# Altium schematic symbol library 海关全向控制器主控板V2.SCHLIB: 30 symbols
Pins are listed as number, name and electrical type; pins without a type are passive.

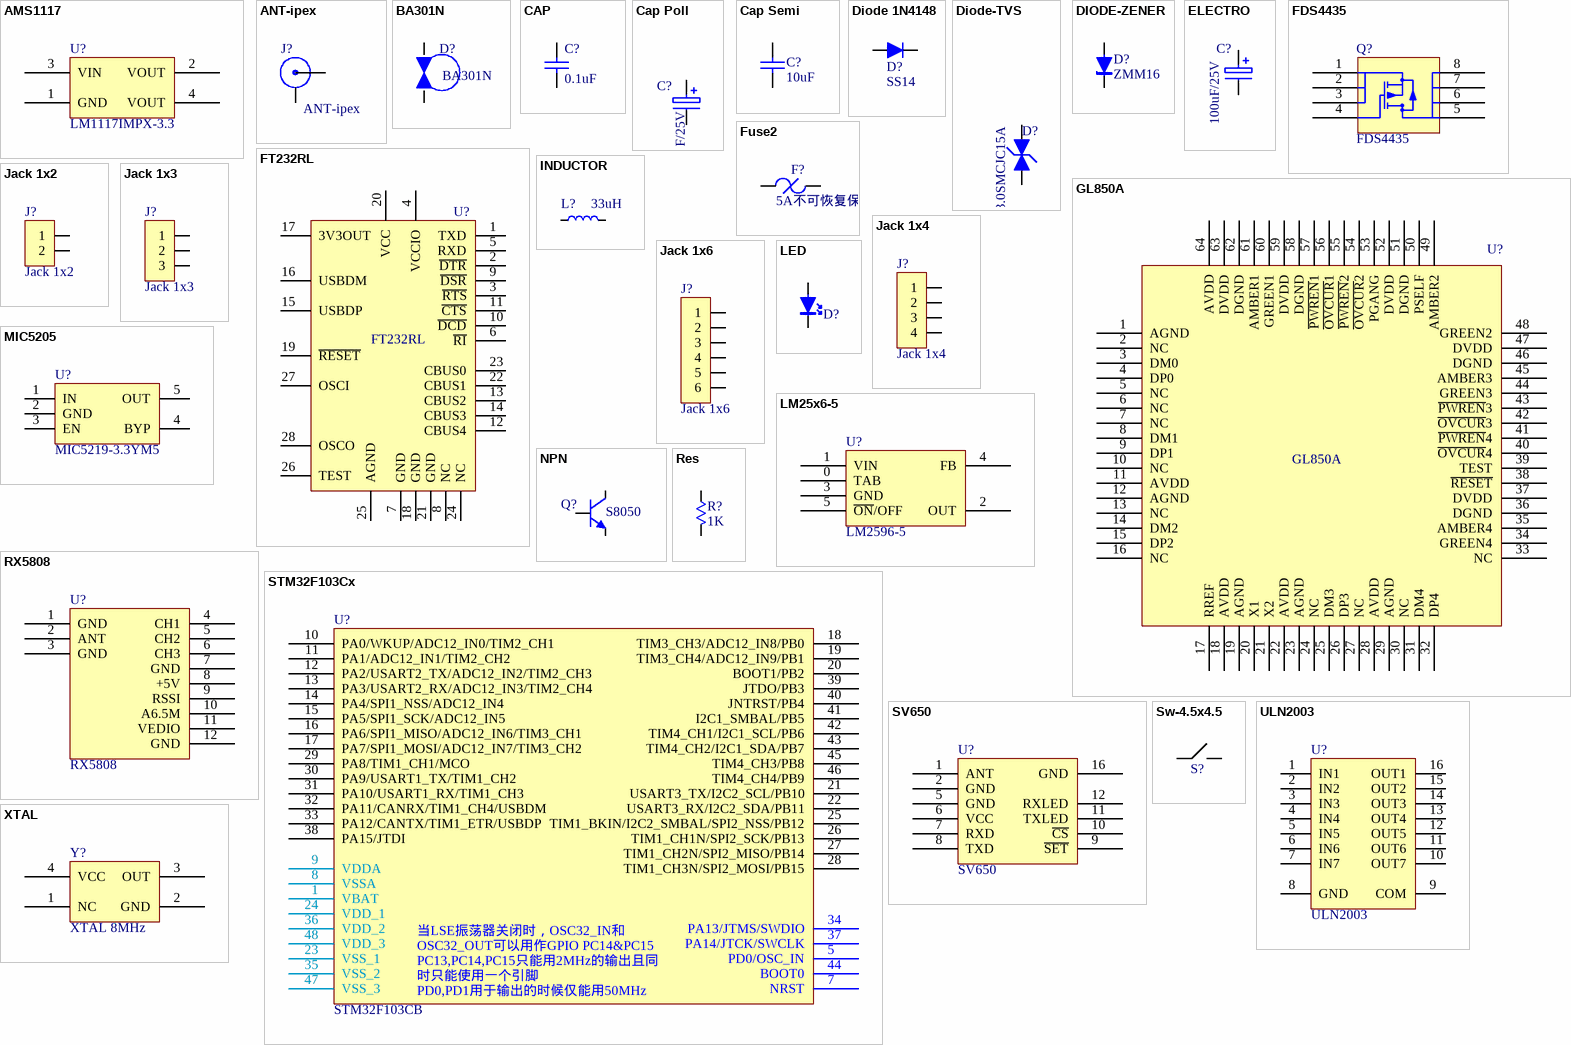
[diagram p0: symbols AMS1117 to XTAL]

## AMS1117
designator U?, comment LM1117IMPX-3.3
800mA Low-Dropout Linear Regulator; Published: 24-Mar-1999; LatestRevisionDate: 17-Jul-2002; LatestRevisionNote: Re-released for DXP Platform.; PackageReference: D2PAK; Publisher: Altium Limited; Code_JEDEC: SMD-220
footprint SOT-223
pins: 1 GND, 2 VOUT, 3 VIN, 4 VOUT

## ANT-ipex
designator J?
footprint IPEX
pins: 1 ANT, 2 GND

## BA301N
designator D?
footprint BA301N
pins: 1, 2

## CAP
designator C?, comment 0.1uF
CAP; Published: 8-Jun-2000; LatestRevisionDate: 17-Jul-2002; LatestRevisionNote: Re-released for DXP Platform.; PackageReference: RAD-0.3; Publisher: Altium Limited; Value: 0.1uF
footprint C0805
simulation model CAP (Capacitor)
signal-integrity model Cap
footprint C0603-W
footprint C0805
footprint C0805-W
footprint C1206
footprint C1210
footprint C1812
footprint C1825
footprint C0603-S
footprint C0603
pins: 1, 2

## Cap Poll
designator C?, comment 100uF/25V
footprint C10*10.8 (470uF/35V)
footprint C7343
pins: 1, 2

## Cap Semi
designator C?, comment 10uF
footprint C0805
footprint C0603
pins: 1, 2

## Diode 1N4148
designator D?, comment SS14
High Conductance Fast Diode; Published: 8-Jun-2000; LatestRevisionDate: 17-Jul-2002; LatestRevisionNote: Re-released for DXP Platform.; DatasheetVersion: 1997; PackageReference: DO-35; Publisher: Altium Limited; PackageDescription: Diode, Axial; Body 3.8 x 1.9 mm (LxDia. max), Lead Dia. 0.53 mm (max); Code_JEDEC: DO-204-AH; ComponentLink1Description: Manufacturer Link; ComponentLink1URL: http://www.fairchildsemi.com/; ComponentLink2Description: Datasheet; ComponentLink2URL: http://www.fairchildsemi.com/ds/1N%2F1N4148.pdf
footprint SMA
simulation model 1N4148 (DIODE)
signal-integrity model 1N4148
pins: 1 A, 2 K, 2 K

## Diode-TVS
designator D?, comment 3.0SMCJC15A
footprint smc
pins: 1 A, 2 K

## DIODE-ZENER
designator D?, comment ZMM16
Small Signal Zener Diodes
footprint SOD-80-S
footprint SOD-80-S
pins: 1 A, 2 K

## ELECTRO
designator C?, comment 100uF/25V
Electrolytic Capacitor
footprint RB.1/.2
footprint RB.15/.3
footprint RB.1/.3
footprint RB.2/.6(160V/47U)
footprint CTANT - D
footprint CT7343-D\E
footprint C6.3*7.7 (100uF/35V)
footprint C7343
pins: 1, 2

## FDS4435
designator Q?
footprint SO8
pins: 1, 2, 3, 4, 5, 6, 7, 8

## FT232RL
designator U?
footprint SSOP-28
pins: 1 TXD, 2 ~{DTR}, 3 ~{RTS}, 4 VCCIO, 5 RXD, 6 ~{RI}, 7 GND, 8 NC, 9 ~{DSR}, 10 ~{DCD}, 11 ~{CTS}, 12 CBUS4, 13 CBUS2, 14 CBUS3, 15 USBDP, 16 USBDM, 17 3V3OUT, 18 GND, 19 ~{RESET}, 20 VCC, 21 GND, 22 CBUS1, 23 CBUS0, 24 NC, 25 AGND, 26 TEST, 27 OSCI, 28 OSCO

## Fuse2
designator F?, comment 5A不可恢复保险
footprint F1218
pins: 1, 2

## GL850A
designator U?
footprint LQF64
pins: 1 AGND, 2 NC, 3 DM0, 4 DP0, 5 NC, 6 NC, 7 NC, 8 DM1, 9 DP1, 10 NC, 11 AVDD, 12 AGND, 13 NC, 14 DM2, 15 DP2, 16 NC, 17 RREF, 18 AVDD, 19 AGND, 20 X1, 21 X2, 22 AVDD, 23 AGND, 24 NC, 25 DM3, 26 DP3, 27 NC, 28 AVDD, 29 AGND, 30 NC, 31 DM4, 32 DP4, 33 NC, 34 GREEN4, 35 AMBER4, 36 DGND, 37 DVDD, 38 ~{RESET}, 39 TEST, 40 ~{OVCUR}4, 41 ~{PWREN}4, 42 ~{OVCUR}3, 43 ~{PWREN}3, 44 GREEN3, 45 AMBER3, 46 DGND, 47 DVDD, 48 GREEN2, 49 AMBER2, 50 PSELF, 51 DGND, 52 DVDD, 53 PGANG, 54 ~{OVCUR}2, 55 ~{PWREN}2, 56 ~{OVCUR}1, 57 ~{PWREN}1, 58 DGND, 59 DVDD, 60 GREEN1, 61 AMBER1, 62 DGND, 63 DVDD, 64 AVDD

## INDUCTOR
designator L?, comment 33uH
INDUCTOR; Code_IEC: 1005; Published: 8-Jun-2000; LatestRevisionDate: 17-Jul-2002; LatestRevisionNote: Re-released for DXP Platform.; PackageReference: 0402-A; Publisher: Altium Limited; Code_JEITA: 0402
simulation model INDUCTOR (Inductor)
signal-integrity model Inductor
footprint L6.6*7.1mm (AMPI0630ED)
footprint L0805-C
footprint L0603-C
footprint L3030-P
footprint SLF7055 (TDK SMD power inductor)
footprint L5050-P
pins: 1, 2

## Jack 1x2
designator J?
插座
footprint KLD-0202 (DC Power Jack, 2.5mm, KLD Series, PCB Mount)
pins: 1, 2

## Jack 1x3
designator J?
插座
footprint 35363-0360
pins: 1, 2, 3

## Jack 1x4
designator J?
插座
footprint 35363-0460
pins: 1, 2, 3, 4

## Jack 1x6
designator J?
插座
footprint 35363-0660
pins: 1, 2, 3, 4, 5, 6

## LED
designator D?  (value not drawn)
footprint LED0603
footprint LED1206
footprint LED0603
footprint LED0603
pins: 1 A, 2 K

## LM25x6-5
designator U?, comment LM2596-5
LM2596-5;LM2576-5
footprint TO-263-5
pins: 0 TAB, 1 VIN, 2 OUT, 3 GND, 4 FB, 5 ~{ON}/OFF

## MIC5205
designator U?, comment MIC5219-3.3YM5
footprint SOT-23-5 (Footprint not found)
pins: 1 IN, 2 GND, 3 EN, 4 BYP, 5 OUT

## NPN
designator Q?, comment S8050
NPN General Purpose Amplifier; Published: 8-Jun-2000; LatestRevisionDate: 15-Jan-2003; LatestRevisionNote: PCB Footprint 'BCY-W3/D4.7' replaced; DatasheetDocument: 1997; PackageDocument: Sep-1998; PackageReference: TO-92A; Publisher: Altium Limited; Code_JEDEC: TO-92A; ComponentLink1Description: Manufacturer Link; ComponentLink1URL: http://www.fairchildsemi.com/; ComponentLink2Description: Datasheet; ComponentLink2URL: http://www.fairchildsemi.com/ds/2N%2F2N3904.pdf
footprint SOT-23
simulation model 2N3904 (NPN)
signal-integrity model 2N3904
pins: 1 B, 2 E, 3 C

## Res
designator R?, comment 1K
Resistor; Published: 8-Jun-2000; LatestRevisionDate: 04-Mar-2005; LatestRevisionNote: PCB Footprint replaced.; PackageReference: J1-0603; Publisher: Altium Limited; Value: 1K
footprint R0603-S
simulation model RESISTOR (Resistor)
signal-integrity model Res
footprint R0603
footprint R0603-S
footprint R0805
footprint R805
pins: 1, 2

## RX5808
designator U?
footprint RX5808
pins: 1 GND, 2 ANT, 3 GND, 4 CH1, 5 CH2, 6 CH3, 7 GND, 8 +5V, 9 RSSI, 10 A6.5M, 11 VEDIO, 12 GND

## STM32F103Cx
designator U?, comment STM32F103CB
footprint LQF48
pins: 1 VBAT (power), 2 PC13-TAMPER-RTC hidden, 3 PC14-OSC32_IN hidden, 4 PC15-OSC32_OUT hidden, 5 PD0/OSC_IN, 6 PD1/OSC_OUT hidden, 7 NRST, 8 VSSA (power), 9 VDDA (power), 10 PA0/WKUP/ADC12_IN0/TIM2_CH1, 11 PA1/ADC12_IN1/TIM2_CH2, 12 PA2/USART2_TX/ADC12_IN2/TIM2_CH3, 13 PA3/USART2_RX/ADC12_IN3/TIM2_CH4, 14 PA4/SPI1_NSS/ADC12_IN4, 15 PA5/SPI1_SCK/ADC12_IN5, 16 PA6/SPI1_MISO/ADC12_IN6/TIM3_CH1, 17 PA7/SPI1_MOSI/ADC12_IN7/TIM3_CH2, 18 TIM3_CH3/ADC12_IN8/PB0, 19 TIM3_CH4/ADC12_IN9/PB1, 20 BOOT1/PB2, 21 USART3_TX/I2C2_SCL/PB10, 22 USART3_RX/I2C2_SDA/PB11, 23 VSS_1 (power), 24 VDD_1 (power), 25 TIM1_BKIN/I2C2_SMBAL/SPI2_NSS/PB12, 26 TIM1_CH1N/SPI2_SCK/PB13, 27 TIM1_CH2N/SPI2_MISO/PB14, 28 TIM1_CH3N/SPI2_MOSI/PB15, 29 PA8/TIM1_CH1/MCO, 30 PA9/USART1_TX/TIM1_CH2, 31 PA10/USART1_RX/TIM1_CH3, 32 PA11/CANRX/TIM1_CH4/USBDM, 33 PA12/CANTX/TIM1_ETR/USBDP, 34 PA13/JTMS/SWDIO, 35 VSS_2 (power), 36 VDD_2 (power), 37 PA14/JTCK/SWCLK, 38 PA15/JTDI, 39 JTDO/PB3, 40 JNTRST/PB4, 41 I2C1_SMBAL/PB5, 42 TIM4_CH1/I2C1_SCL/PB6, 43 TIM4_CH2/I2C1_SDA/PB7, 44 BOOT0, 45 TIM4_CH3/PB8, 46 TIM4_CH4/PB9, 47 VSS_3 (power), 48 VDD_3 (power)
text: OSC32_IN和OSC32_OUT可以用作通用IO PC14和PC15; PC13,PC14,PC15只能用于2MHz的输出模式且同时只能使用一个引脚; 当LSE振荡器关闭时，OSC32_IN和OSC32_OUT可以用作GPIO PC14&PC15 / PC13,PC14,PC15只能用2MHz的输出且同时只能使用一个引脚 / PD0,PD1用于输出的时候仅能用50MHz

## SV650
designator U?
footprint SV650
pins: 1 ANT, 2 GND, 5 GND, 6 VCC, 7 RXD, 8 TXD, 9 ~{SET}, 10 ~{CS}, 11 TXLED, 12 RXLED, 16 GND

## Sw-4.5x4.5
designator S?, comment Sw-4.5x4.5x5  (value not drawn)
Sw-4.5x4.5
footprint SW-6*6*7
pins: 1, 2

## ULN2003
designator U?
footprint SO16
pins: 1 IN1, 2 IN2, 3 IN3, 4 IN4, 5 IN5, 6 IN6, 7 IN7, 8 GND (power), 9 COM, 10 OUT7 (oc), 11 OUT6 (oc), 12 OUT5 (oc), 13 OUT4 (oc), 14 OUT3 (oc), 15 OUT2 (oc), 16 OUT1 (oc)

## XTAL
designator Y?, comment XTAL 8MHz
footprint SO-CRASTAL
footprint SO-CRASTAL - 5032
footprint XTAL5032
pins: 1 NC, 2 GND, 3 OUT, 4 VCC